# Altium schematic symbol library VolcDB.SCHLIB: 26 symbols
Pins are listed as number, name and electrical type; pins without a type are passive.

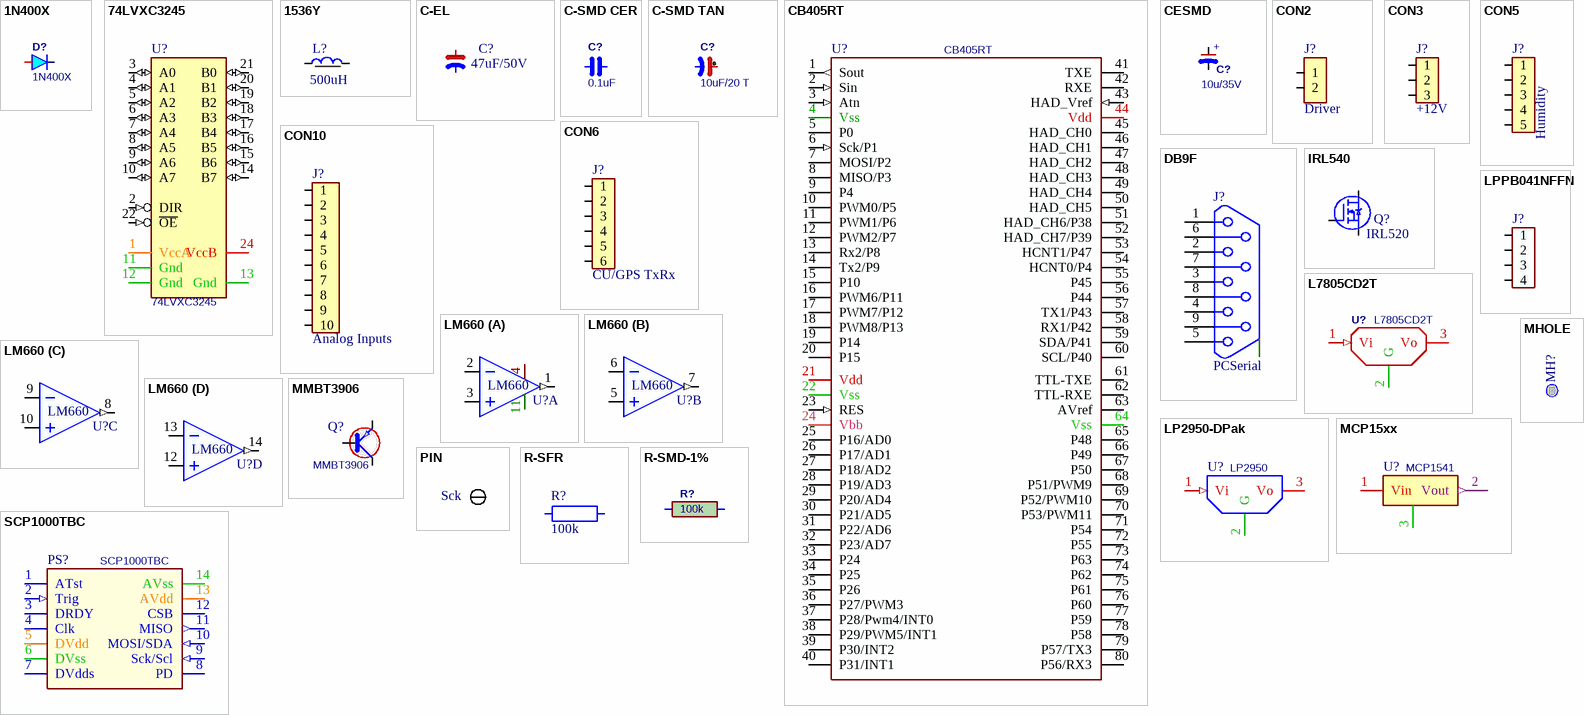
[diagram p0: symbols 1N400X to SCP1000TBC]

## 1N400X
designator D?
Rectifier diode; Value: *; Type: *; Mfg.: *; Supplier: *; Part#: *; Price: *; Notes: *
footprint DO-41
footprint D500H
pins: 1 A, 2 K

## 74LVXC3245
designator U?
Octal Dual supply bus transceiver; Part#: 497-1092-1-ND; Mfg.: ST Microelectronics; Type: 74LVXC3245MTR; Supplier: Digi Key; Price: $1.88; Notes: *
footprint SOIC-SO-24/300
pins: 1 VccA (power), 2 DIR (in), 3 A0 (io), 4 A1 (io), 5 A2 (io), 6 A3 (io), 7 A4 (io), 8 A5 (io), 9 A6 (io), 10 A7 (io), 11 Gnd, 12 Gnd, 13 Gnd, 14 B7 (io), 15 B6 (io), 16 B5 (io), 17 B4 (io), 18 B3 (io), 19 B2 (io), 20 B1 (io), 21 B0 (io), 22 ~{OE} (in), 24 VccB (power)

## 1536Y
designator L?, comment 500uH
Power Inductor TH; Mfg.: J.W.Miller; Value: 500uH; Supplier: *; Part#: *; Price: *; Notes: *
footprint 1536Y (Inductor 500uH)
pins: 1 L1, 2 L2

## C-EL
designator C?, comment 47uF/50V
Capacitor Electrolytic TH; Mfg.: *; Notes: *; Part#: *; Price: *; Supplier: *; Type: *; Value: *
footprint CE200/80
footprint CE250/100
footprint CE300/150
footprint EIA-A
footprint EIA-B
pins: 1 C1, 2 C2

## C-SMD CER
designator C?, comment 0.1uF
Capacitor SMD ceramic; Part#: 399-1170-1-ND; Value: 0.1 uF/50V X7R; Type: C0805C104K5RACTU; Mfg.: Kemet; Supplier: Digi Key; Price: $0.054; Notes: *
footprint 0402
footprint 0603
footprint 0805
footprint 1206
footprint CC2012-0805
pins: 1 C1, 2 C2

## C-SMD TAN
designator C?, comment 10uF/20 T
Capacitor Tantal; Part#: 399-5152-1-ND; Value: 10uF/20V T 1206; Type: CAP TANT 10UF 20V 20% SMD; Mfg.: Kemet; Supplier: Digi Key; Price: $0.59; Notes: *
footprint EIA-A
footprint EIA-B
footprint EIA-C
footprint EIA-D
footprint EIA-X
footprint 1206
footprint CC3216-1206
pins: 1 C1, 2 C2

## CB405RT
designator U?
Cubloc; Mfg.: Comfile Technology; Value: *; Type: CB405RT; Supplier: *; Part#: *; Price: *; Notes: http://www.cubloc.com
footprint CB405RT (Cubloc)
pins: 1 Sout (out), 2 Sin (in), 3 Atn (in), 4 Vss, 5 P0, 6 Sck/P1 (in), 7 MOSI/P2, 8 MISO/P3, 9 P4, 10 PWM0/P5, 11 PWM1/P6, 12 PWM2/P7, 13 Rx2/P8, 14 Tx2/P9, 15 P10, 16 PWM6/P11, 17 PWM7/P12, 18 PWM8/P13, 19 P14, 20 P15, 21 Vdd (power), 22 Vss, 23 RES (in), 24 Vbb, 25 P16/AD0, 26 P17/AD1, 27 P18/AD2, 28 P19/AD3, 29 P20/AD4, 30 P21/AD5, 31 P22/AD6, 32 P23/AD7, 33 P24, 34 P25, 35 P26, 36 P27/PWM3, 37 P28/Pwm4/INT0, 38 P29/PWM5/INT1, 39 P30/INT2, 40 P31/INT1, 41 TXE, 42 RXE, 43 HAD_Vref (in), 44 Vdd, 45 HAD_CH0, 46 HAD_CH1, 47 HAD_CH2, 48 HAD_CH3, 49 HAD_CH4, 50 HAD_CH5, 51 HAD_CH6/P38, 52 HAD_CH7/P39, 53 HCNT1/P47, 54 HCNT0/P4, 55 P45, 56 P44, 57 TX1/P43, 58 RX1/P42, 59 SDA/P41, 60 SCL/P40, 61 TTL-TXE, 62 TTL-RXE, 63 AVref, 64 Vss, 65 P48, 66 P49, 67 P50, 68 P51/PWM9, 69 P52/PWM10, 70 P53/PWM11, 71 P54, 72 P55, 73 P63, 74 P62, 75 P61, 76 P60, 77 P59, 78 P58, 79 P57/TX3, 80 P56/RX3

## CESMD
designator C?, comment 10u/35V
Capacitor Electrolytic SMD; Part#: PCE3413CT-ND; Mfg.: Panasonic; Type: EEV-FK1V100UR; Notes: *; Supplier: Digi Key; Value: 10u/35V; Price: $0.25
footprint CESMD-D
footprint CESMD-E
footprint CESMD-F
footprint CESMD-G
footprint CESMD-K16
footprint CESMD-H13
footprint CESMD-B
footprint CESMD-C
pins: 1 +, 2 -

## CON2
designator J?, comment Driver
Connector 2 pin; Value: *; Type: *; Mfg.: *; Supplier: *; Part#: *; Price: *; Notes: *
footprint Sip2
footprint MSTBVA2.5/2-G-5.08
footprint MCV05/2-G-2.5 (Header 2 pin 2.5mm)
footprint 6410/2pin
pins: 1, 2

## CON3
designator J?, comment +12V
Connector 3 pin; Value: *; Type: *; Mfg.: *; Supplier: *; Part#: *; Price: *; Notes: *
footprint Sip3
footprint MC1.5/3-G-3.81
footprint 6410/3pin
pins: 1, 2, 3

## CON5
designator J?, comment Humidity
Connector; Value: *; Type: *; Mfg.: *; Supplier: *; Part#: *; Price: *; Notes: *
footprint Sip5
footprint 6410/5pin
pins: 1, 2, 3, 4, 5

## CON6
designator J?, comment CU/GPS TxRx
Connector 6 pin; Value: *; Type: *; Mfg.: *; Supplier: *; Part#: *; Price: *; Notes: *
footprint Sip6
footprint MSTBVA2.5/6-G5.08
footprint MKDSN1.5/6-5.08
footprint IDC6
footprint MC1.5/6-G-3.81
footprint MCV05/6-G-2.5 (Header 6 pin 2.5mm)
footprint MC05/6-G-2.5 (Header RA 6 pin 2.5mm)
footprint 6410/6pin
pins: 1, 2, 3, 4, 5, 6

## CON10
designator J?, comment Analog Inputs
Connector  Phoenix 10 pin; Value: *; Type: *; Mfg: *; Supplier: *; Part#: *; Price: *; Notes: *
footprint Sip10
footprint MSTBVA2.5/10-G5.08
footprint MSTBA2.5/10-G5.08
footprint IDC10
footprint MC1.5/10-G-3.81
footprint MCV05/10-G-2.5 (Header 6 pin 2.5mm)
footprint MC05/10-G-2.5 (Header RA 10 pin 2.5mm)
footprint 6410/10pin
pins: 1, 2, 3, 4, 5, 6, 7, 8, 9, 10

## DB9F
designator J?, comment PCSerial
D-Sub 9 pin Female; Value: *; Type: *; Mfg.: *; Supplier: *; Part#: *; Price: *; Notes: *
footprint DB-9/F
footprint DB9-F-V 171-009-213Ryy1 (DB9  Female Vertical)
pins: 1, 2, 3, 4, 5, 6, 7, 8, 9, M1, M2

## IRL540
designator Q?, comment IRL520
Power MOSFET; Value: *; Type: *; Mfg.: *; Supplier: *; Part#: *; Price: *; Notes: *
footprint TO-220/3V
footprint TO-220/3H
pins: 1 G, 2 D, 3 S

## L7805CD2T
designator U?
Positive  voltage regulator 5V/1.5A; Part#: 497-1171-1-ND; Value: +5V/1.5A; Mfg.: ST Microelectronics; Type: L7805CD2T-TR; Supplier: Digi Key; Price: $1.09; Notes: *
footprint D2PAK (D-Pak)
pins: 1 Vi (in), 2 G, 3 Vo (power)

## LM660
designator U?
Quad opamplifiers; Part#: LMC660CMXCT-ND; Mfg.: National Semi; Type: LMC660CMX/NOPB; Supplier: Digi Key; Price: $2.33; Notes: *; Supplier Part Number 1: LMC660CMX/NOPBCT-ND
footprint SOIC-14
footprint DIP14
part A pins: 1 OutA (out), 2 -InA, 3 +InA, 4 Vdd, 11 Vss
part B pins: 5 +InB, 6 -InB, 7 OutB (out)
part C pins: 8 OutC (out), 9 -InC, 10 +InC
part D pins: 12 +InD, 13 -InD, 14 OutD (out)

## LP2950-DPak
designator U?, comment LP2950
Positive  voltage regulator 3V/100mA; Part#: LP2950CDT-3.0RKGOSCT-ND; Value: +3V/100mA; Mfg.: ON Semiconductor; Type: LP2950CDT-3.0RKGOS; Supplier: Digi Key; Price: $1.07; Notes: *
footprint DPak-369C-01 (Plastic package DPak)
pins: 1 Vi (in), 2 G, 3 Vo (power)

## LPPB041NFFN
designator J?, comment LPPB041NFFN-RC  (value not drawn)
Connector 4 pin 1.27mm Sip; Part#: S9008E-04-ND; Mfg.: Sulloins; Value: 4 pin 1.27 mm Sip; Type: LPPB041NFFN-RC; Supplier: Digi Key; Price: $0.78; Notes: *
footprint LPPB041NFFN-RC (Connector 4 pin 1.27mm Sip Vertical)
pins: 1, 2, 3, 4

## MCP15xx
designator U?, comment MCP1541
Voltage reference; Part#: MCP1541T-I/TTCT-ND; Value: Vr=4.096V; Mfg.: Microchip; Type: MCP1541T-I/TT; Supplier: Digi Key; Price: $1.04; Notes: *
footprint SOT-23
footprint TO-92A
pins: 1 Vin (power), 2 Vout (out), 3 Vss

## MHOLE
designator MH?  (value not drawn)
Mounting Hole; Value: *; Type: *; Mfg.: *; Supplier: *; Part#: *; Price: *; Notes: *
footprint H150/100
footprint H200/125
footprint H200/150
footprint H350/180
footprint H190/100
footprint Hole135/126
pins: 0 P

## MMBT3906
designator Q?
PNP 40V/200mA SMT; Part#: MMBT3906FSCT-ND; Mfg.: Fairchild; Value: PNP 40V/200mA; Type: MMBT3906; Supplier: Digi Key; Price: $0.10; Notes: *
3D model SOT23-3 (PCB3D Model)
footprint SOT-23
pins: 1 B, 2 E, 3 C

## PIN
designator PIN?, comment Sck
PIN
footprint PIN
pins: 1 PIN

## R-SFR
designator R?, comment 100k
RESISTOR SFR; Value: *; Type: *; Mfg.: *; Supplier: *; Part#: *; Price: *; Notes: *
footprint R300H
footprint BC1W
footprint BC2W
footprint BC3W
footprint BC3W-V
pins: 1 R1, 2 R2

## R-SMD-1%
designator R?, comment 100k
Resistor SMT 1%; Part#: RHM1.00KCCT-ND; Value: 1k00 1%; Mfg.: Rohm; Type: MCR10EZHF1001; Supplier: Digi Key; Price: $0.046; Notes: *
footprint 0603
footprint 0805
footprint 1206
footprint 1210
footprint CR2012-0805
pins: 1 R1, 2 R2

## SCP1000TBC
designator PS?
Pressure sensor module; Mfg.: VTI Technologies; Notes: *; Part#: *; Price: *; Supplier: *; Type: *; Value: *
footprint SCB1000TPC (Pressure sensor module)
pins: 1 ATst, 2 Trig (in), 3 DRDY, 4 Clk, 5 DVdd (power), 6 DVss, 7 DVdds, 8 PD, 9 Sck/Scl (in), 10 MOSI/SDA (in), 11 MISO (out), 12 CSB, 13 AVdd (power), 14 AVss